# EAGLE library part PCIE-036-02-X-D-RA (library PCIE-036-02-X-D-RA)
1.00 mm PCI Express® Edge Card Connector
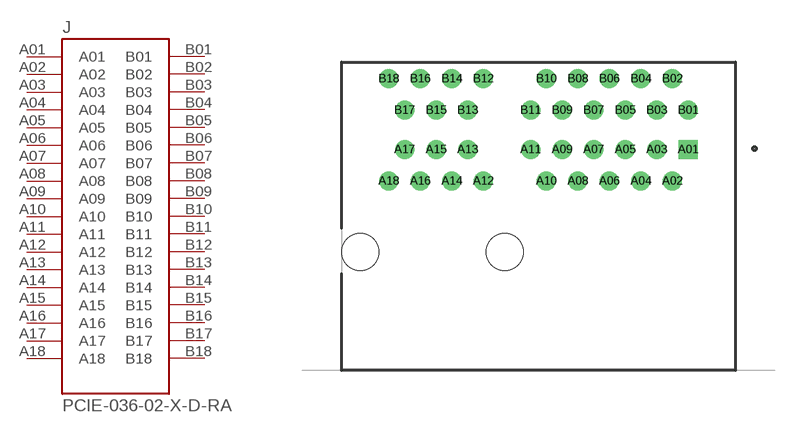
[diagram p0: symbol with the pads of SAMTEC_PCIE-036-02-X-D-RA; footprint SAMTEC_PCIE-036-02-X-D-RA]

Designator prefix J

## PCIE-036-02-X-D-RA (MANUFACTURER: Samtec Inc; MAXIMUM_PACKAGE_HEIGHT: 9.58mm; PARTREV: D; STANDARD: Manufacturer Recommendations)  [SAMTEC_PCIE-036-02-X-D-RA]
A01  A01  pas
A02  A02  pas
A03  A03  pas
A04  A04  pas
A05  A05  pas
A06  A06  pas
A07  A07  pas
A08  A08  pas
A09  A09  pas
A10  A10  pas
A11  A11  pas
A12  A12  pas
A13  A13  pas
A14  A14  pas
A15  A15  pas
A16  A16  pas
A17  A17  pas
A18  A18  pas
B01  B01  pas
B02  B02  pas
B03  B03  pas
B04  B04  pas
B05  B05  pas
B06  B06  pas
B07  B07  pas
B08  B08  pas
B09  B09  pas
B10  B10  pas
B11  B11  pas
B12  B12  pas
B13  B13  pas
B14  B14  pas
B15  B15  pas
B16  B16  pas
B17  B17  pas
B18  B18  pas

## Footprint SAMTEC_PCIE-036-02-X-D-RA (pad centres in mm)
drill 0.7 square: A01 9.5,4.25
drill 0.7: A02 8.5,2.25; A03 7.5,4.25; A04 6.5,2.25; A05 5.5,4.25; A06 4.5,2.25; A07 3.5,4.25; A08 2.5,2.25; A09 1.5,4.25; A10 0.5,2.25; A11 -0.5,4.25; A12 -3.5,2.25; A13 -4.5,4.25; A14 -5.5,2.25; A15 -6.5,4.25; A16 -7.5,2.25; A17 -8.5,4.25; A18 -9.5,2.25; B01 9.5,6.75; B02 8.5,8.75; B03 7.5,6.75; B04 6.5,8.75; B05 5.5,6.75; B06 4.5,8.75; B07 3.5,6.75; B08 2.5,8.75; B09 1.5,6.75; B10 0.5,8.75; B11 -0.5,6.75; B12 -3.5,8.75; B13 -4.5,6.75; B14 -5.5,8.75; B15 -6.5,6.75; B16 -7.5,8.75; B17 -8.5,6.75; B18 -9.5,8.75
hole 2.35 at -2.15,-2.25
hole 2.35 at -11.3,-2.25